# Altium footprint library Empreintes_LIB_atelier1A.PcbLib: 72 footprints (part 3 of 5)
Each footprint in its own frame and in the unit in brackets; x right, y up, seen from the top. Pads: shape width x height; smd on the part's side, far side on the other; paste and mask are expansions set on the pad; w line width, h text height; cw(c..) or ccw(c..) is an arc to the next point about the centre after c.
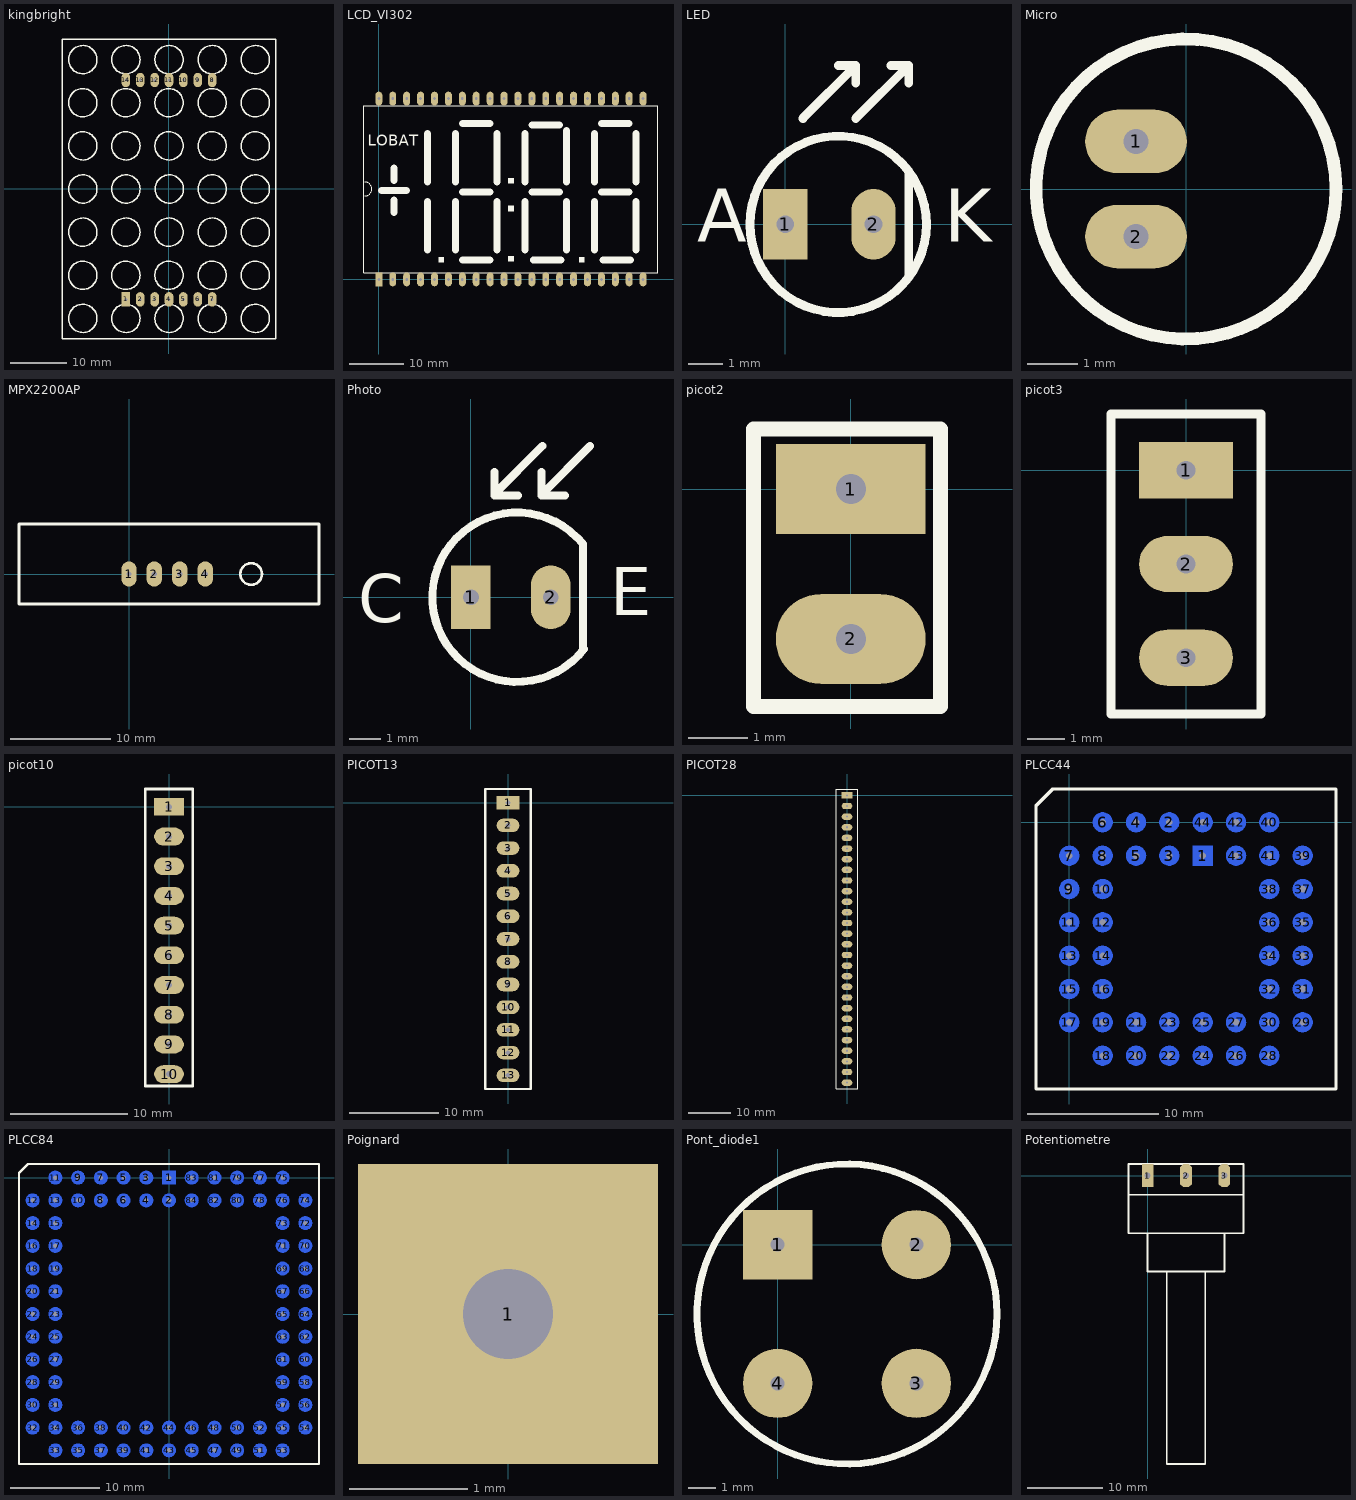
[diagram p2: the footprints below, top view; thin cyan lines are the x and y axes]

## kingbright [mil]
pads (14):
  rect 60x100 hole 20: 1(-300,-767.72)
  oval 60x100 hole 20: 2(-200,-767.72) 3(-100,-767.72) 4(0,-767.72) 5(100,-767.72) 6(200,-767.72) 7(300,-767.72) 8(300,757.87) 9(200,757.87) 10(100,757.87) 11(0,757.87) 12(-100,757.87) 13(-200,757.87) 14(-300,757.87)
TopOverlay:
  circle w10: c1.57,0 r98.43
  circle w10: c-300,0 r98.43
  circle w10: c300,0 r98.43
  circle w10: c600,0 r98.43
  circle w10: c-600,0 r98.43
  circle w10: c0,900 r98.43
  circle w10: c600,-900 r98.43
  circle w10: c300,-900 r98.43
  circle w10: c-300,-900 r98.43
  circle w10: c-600,-900 r98.43
  circle w10: c300,300 r98.43
  circle w10: c-600,300 r98.43
  circle w10: c600,300 r98.43
  circle w10: c0,300 r98.43
  circle w10: c-300,300 r98.43
  circle w10: c300,900 r98.43
  circle w10: c0,-900 r98.43
  circle w10: c-300,900 r98.43
  circle w10: c600,900 r98.43
  circle w10: c-600,900 r98.43
  circle w10: c0,-300 r98.43
  circle w10: c300,-300 r98.43
  circle w10: c-300,-300 r98.43
  circle w10: c600,-300 r98.43
  circle w10: c-600,-300 r98.43
  circle w10: c0,-600 r98.43
  circle w10: c-300,-600 r98.43
  circle w10: c600,-600 r98.43
  circle w10: c0,600 r98.43
  circle w10: c300,600 r98.43
  circle w10: c-600,-600 r98.43
  circle w10: c-600,600 r98.43
  circle w10: c-300,600 r98.43
  circle w10: c300,-600 r98.43
  circle w10: c600,600 r98.43
  lines w10: -741.14,-1043.31 -741.14,1043.31 741.14,1043.31 741.14,-1043.31 -741.14,-1043.31

## LCD_VI302 [mil] "DIP; 40 Leads; Row Spacing 15.24 mm; Pitch 2.54 mm"
height 225.2
pads (40):
  rect 50x100 hole 20: 1(0,0)
  oval 50x100 hole 20: 2(100,0) 3(200,0) 4(300,0) 5(400,0) 6(500,0) 7(600,0) 8(700,0) 9(800,0) 10(900,0) 11(1000,0) 12(1100,0) 13(1200,0) 14(1300,0) 15(1400,0) 16(1500,0) 17(1600,0) 18(1700,0) 19(1800,0) 20(1900,0) 21(1900,1300) 22(1800,1300) 23(1700,1300) 24(1600,1300) 25(1500,1300) 26(1400,1300) 27(1300,1300) 28(1200,1300) 29(1100,1300) 30(1000,1300) 31(900,1300) 32(800,1300) 33(700,1300) 34(600,1300) 35(500,1300) 36(400,1300) 37(300,1300) 38(200,1300) 39(100,1300) 40(0,1300)
TopOverlay:
  rectangle: 930,130 970,170
  rectangle: 1440,120 1480,160
  rectangle: 930,490 970,530
  rectangle: 930,690 970,730
  rectangle: 430,120 470,160
  lines w7.87: -107.09,325 -107.09,1250 2007.09,1250 2007.09,46.06 -107.09,46.06 -107.09,400 ; -100,600 ccw(c-100,650) -100,700
  lines w50: 20,640 200,640 ; 110,480 110,570 ; 110,710 110,800 ; 350,210 350,560 ; 350,700 350,1050 ; 550,210 550,560 ; 550,700 550,1050 ; 600,140 800,140 ; 600,630 800,630 ; 600,1120 800,1120 ; 850,210 850,560 ; 850,700 850,1050 ; 1050,210 1050,560 ; 1050,700 1050,1050 ; 1100,630 1300,630 ; 1100,1110 1300,1110 ; 1110,140 1310,140 ; 1350,210 1350,560 ; 1350,700 1350,1070 ; 1550,210 1550,560 ; 1550,700 1550,1050 ; 1600,630 1800,630 ; 1600,1120 1800,1120 ; 1610,140 1810,140 ; 1850,210 1850,560 ; 1850,700 1850,1050
  text "LOBAT" at -80,960 h80

## LED [mil]
pads (2):
  rect 50x80 hole 20: 1(0,0)
  oval 50x80 hole 20: 2(100,0)
TopOverlay:
  circle w10: c60,0 r100
  lines w10: 20,120 80,180 ; 60,180 80,180 ; 80,120 140,180 ; 80,160 80,180 ; 120,180 140,180 ; 140,-60 140,60 ; 140,160 140,180
  text "A" at -100,-20 h60
  text "K" at 180,-20 h60

## Micro [mil]
pads (2):
  oval 80x50 hole 20: 1(-39.37,37.4) 2(-39.37,-37.4)
TopOverlay:
  circle w10: c0,0 r118.11

## MPX2200AP [mil]
pads (4):
  oval 60x100 hole 20: 1(0,0) 2(99.41,0) 3(199.8,0) 4(300.2,0)
TopOverlay:
  circle w10: c481.04,0 r42.59
  lines w10: -433.07,-118.11 748.03,-118.11 748.03,196.85 -433.07,196.85 -433.07,-118.11

## Photo [mil]
pads (2):
  rect 50x80 hole 20: 1(0,0)
  oval 50x80 hole 20: 2(100.39,0)
TopOverlay:
  lines w10: 29.53,157.48 29.53,127.95 59.06,127.95 ; 29.84,129.84 89.84,189.84 ; 88.58,157.48 88.58,127.95 118.11,127.95 ; 89.84,129.84 149.84,189.84 ; 140.75,-63.55 140.75,66.93 ccw(c58.07,0) 142.24,-65.04
  text "E" at 175.2,-22.64 h60
  text "C" at -141.73,-31.5 h60

## picot2 [mil]
pads (2):
  rect 100x60 hole 20: 1(0,0)
  oval 100x60 hole 20: 2(0,-100)
TopOverlay:
  lines w10: -65,-145 60,-145 60,-135 60,40 -55,40 -65,40 -65,-55 -65,-145

## picot3 [mil]
pads (3):
  rect 100x60 hole 20: 1(0,0)
  oval 100x60 hole 20: 2(0,-100) 3(0,-200)
TopOverlay:
  lines w10: 20,-260 80,-260 80,40 80,60 -80,60 -80,40 -80,-260 50,-260

## picot10 [mil]
pads (10):
  rect 100x60 hole 20: 1(0,0)
  oval 100x60 hole 20: 2(0,-100) 3(0,-200) 4(0,-300) 5(0,-400) 6(0,-500) 7(0,-600) 8(0,-700) 9(0,-800) 10(0,-900)
TopOverlay:
  lines w10: -80,-940 -80,60 80,60 80,-940 -80,-940

## PICOT13 [mil]
pads (13):
  rect 100x60 hole 20: 1(0,0)
  oval 100x60 hole 20: 2(0,-100) 3(0,-200) 4(0,-300) 5(0,-400) 6(0,-500) 7(0,-600) 8(0,-700) 9(0,-800) 10(0,-900) 11(0,-1000) 12(0,-1100) 13(0,-1200)
TopOverlay:
  lines w10: -100,20 -100,60 100,60 100,20 ; -100,40 -100,-1250 -100,-1260 100,-1260 100,30

## PICOT28 [mil]
pads (28):
  rect 100x60 hole 20: 1(0,0)
  oval 100x60 hole 20: 2(0,-100) 3(0,-200) 4(0,-300) 5(0,-400) 6(0,-500) 7(0,-600) 8(0,-700) 9(0,-800) 10(0,-900) 11(0,-1000) 12(0,-1100) 13(0,-1200) 14(0,-1300) 15(0,-1400) 16(0,-1500) 17(0,-1600) 18(0,-1700) 19(0,-1800) 20(0,-1900) 21(0,-2000) 22(0,-2100) 23(0,-2200) 24(0,-2300) 25(0,-2400) 26(0,-2500) 27(0,-2600) 28(0,-2700)
TopOverlay:
  lines w10: -100,20 -100,60 100,60 100,20 ; -100,40 -100,-2760 100,-2760 100,40

## PLCC44 [mil]
pads (44):
  rect 60x60 on Bottom hole 20: 1(400,-100)
  round 60 on Bottom hole 20: 2(300,0) 3(300,-100) 4(200,0) 5(200,-100) 6(100,0) 7(0,-100) 8(100,-100) 9(0,-200) 10(100,-200) 11(0,-300) 12(100,-300) 13(0,-400) 14(100,-400) 15(0,-500) 16(100,-500) 17(0,-600) 18(100,-700) 19(100,-600) 20(200,-700) 21(200,-600) 22(300,-700) 23(300,-600) 24(400,-700) 25(400,-600) 26(500,-700) 27(500,-600) 28(600,-700) 29(700,-600) 30(600,-600) 31(700,-500) 32(600,-500) 33(700,-400) 34(600,-400) 35(700,-300) 36(600,-300) 37(700,-200) 38(600,-200) 39(700,-100) 40(600,0) 41(600,-100) 42(500,0) 43(500,-100) 44(400,0)
TopOverlay:
  lines w10: -100,-800 800,-800 800,100 -50,100 -100,50 -100,-800

## PLCC84 [mil]
pads (84):
  rect 60x60 on Bottom hole 20: 1(0,0)
  round 60 on Bottom hole 20: 2(0,-100) 3(-100,0) 4(-100,-100) 5(-200,0) 6(-200,-100) 7(-300,0) 8(-300,-100) 9(-400,0) 10(-400,-100) 11(-500,0) 12(-600,-100) 13(-500,-100) 14(-600,-200) 15(-500,-200) 16(-600,-300) 17(-500,-300) 18(-600,-400) 19(-500,-400) 20(-600,-500) 21(-500,-500) 22(-600,-600) 23(-500,-600) 24(-600,-700) 25(-500,-700) 26(-600,-800) 27(-500,-800) 28(-600,-900) 29(-500,-900) 30(-600,-1000) 31(-500,-1000) 32(-600,-1100) 33(-500,-1200) 34(-500,-1100) 35(-400,-1200) 36(-400,-1100) 37(-300,-1200) 38(-300,-1100) 39(-200,-1200) 40(-200,-1100) 41(-100,-1200) 42(-100,-1100) 43(0,-1200) 44(0,-1100) 45(100,-1200) 46(100,-1100) 47(200,-1200) 48(200,-1100) 49(300,-1200) 50(300,-1100) 51(400,-1200) 52(400,-1100) 53(500,-1200) 54(600,-1100) 55(500,-1100) 56(600,-1000) 57(500,-1000) 58(600,-900) 59(500,-900) 60(600,-800) 61(500,-800) 62(600,-700) 63(500,-700) 64(600,-600) 65(500,-600) 66(600,-500) 67(500,-500) 68(600,-400) 69(500,-400) 70(600,-300) 71(500,-300) 72(600,-200) 73(500,-200) 74(600,-100) 75(500,0) 76(500,-100) 77(400,0) 78(400,-100) 79(300,0) 80(300,-100) 81(200,0) 82(200,-100) 83(100,0) 84(100,-100)
TopOverlay:
  lines w10: -660,-1260 -660,0 -660,20 -620,60 -540,60 660,60 660,-1240 660,-1260 -660,-1260

## Poignard [mil]
pads (1):
  rect 100x100 hole 30: 1(0,0)

## Pont_diode1 [mil]
pads (4):
  rect 100x100 hole 20: 1(0,0)
  round 100 hole 20: 2(200,0) 3(200,-200) 4(0,-200)
TopOverlay:
  circle w10: c100,-100 r216.33
MultiLayer:
  text "-" at -160,-40 h80
  text "+" at 260,-320 h80

## Potentiometre [mil]
pads (3):
  rect 60x120 hole 30: 1(0,0)
  oct 60x120 hole 30: 2(200,0) 3(400,0)
TopOverlay:
  lines w10: 0,-300 0,-500 400,-500 400,-300 ; 100,-500 100,-1500 300,-1500 300,-500 ; -100,-100 -100,-300 500,-300 500,-100 ; -100,-100 -100,60 500,60 500,-100 ; -100,-100 500,-100